# Altium integrated library LEDs-SMTW_rev15a.intlib: 6 symbols
Pins are listed as number, name and electrical type; pins without a type are passive.

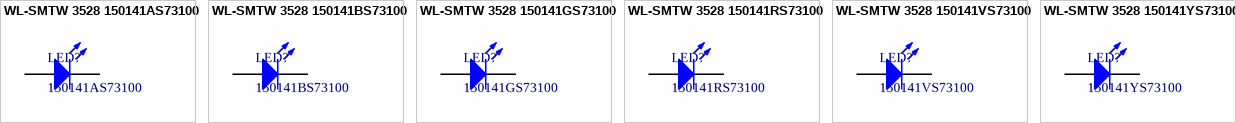
[diagram p0: symbols WL-SMTW 3528 150141AS73100 to WL-SMTW 3528 150141YS73100]

## WL-SMTW 3528 150141AS73100
designator LED?, comment 150141AS73100
SMD mono-color Top LED, WL-SMTW, Amber; Manufacturer: Würth Elektronik eiSos GmbH; PartNo: 150141AS73100; ComponentLink1Description: Manufacturer; ComponentLink1URL: http://www.we-online.de; Created by: Christin Otto; Created Date: June 2013; ComponentLink2Description: Datasheet; ComponentLink2URL: http://katalog.we-online.com/led/datasheet/150141AS73100.pdf; Color: Amber
footprint 3528 (Chip LED, 2-Leads, Body 3.5x2.8mm, IPC Medium Density)
pins: 1 C, 2 A

## WL-SMTW 3528 150141BS73100
designator LED?, comment 150141BS73100
SMD mono-color Top LED, WL-SMTW, Blue; Manufacturer: Würth Elektronik eiSos GmbH; PartNo: 150141BS73100; ComponentLink1Description: Manufacturer; ComponentLink1URL: http://www.we-online.de; Created by: Christin Otto; Created Date: June 2013; ComponentLink2Description: Datasheet; ComponentLink2URL: http://katalog.we-online.com/led/datasheet/150141BS73100.pdf; Color: Blue
footprint 3528 (Chip LED, 2-Leads, Body 3.5x2.8mm, IPC Medium Density)
pins: 1 C, 2 A

## WL-SMTW 3528 150141GS73100
designator LED?, comment 150141GS73100
SMD mono-color Top LED, WL-SMTW, Green; Manufacturer: Würth Elektronik eiSos GmbH; PartNo: 150141GS73100; ComponentLink1Description: Manufacturer; ComponentLink1URL: http://www.we-online.de; Created by: Christin Otto; Created Date: June 2013; ComponentLink2Description: Datasheet; ComponentLink2URL: http://katalog.we-online.com/led/datasheet/150141GS73100.pdf; Color: Green
footprint 3528 (Chip LED, 2-Leads, Body 3.5x2.8mm, IPC Medium Density)
pins: 1 C, 2 A

## WL-SMTW 3528 150141RS73100
designator LED?, comment 150141RS73100
SMD mono-color Top LED, WL-SMTW, Red; Manufacturer: Würth Elektronik eiSos GmbH; PartNo: 150141RS73100; ComponentLink1Description: Manufacturer; ComponentLink1URL: http://www.we-online.de; Created by: Christin Otto; Created Date: June 2013; ComponentLink2Description: Datasheet; ComponentLink2URL: http://katalog.we-online.com/led/datasheet/150141RS73100.pdf; Color: Red
footprint 3528 (Chip LED, 2-Leads, Body 3.5x2.8mm, IPC Medium Density)
pins: 1 C, 2 A

## WL-SMTW 3528 150141VS73100
designator LED?, comment 150141VS73100
SMD mono-color Top LED, WL-SMTW, Bright Green; Manufacturer: Würth Elektronik eiSos GmbH; PartNo: 150141VS73100; ComponentLink1Description: Manufacturer; ComponentLink1URL: http://www.we-online.de; Created by: Christin Otto; Created Date: June 2013; ComponentLink2Description: Datasheet; ComponentLink2URL: http://katalog.we-online.com/led/datasheet/150141VS73100.pdf; Color: Bright Green
footprint 3528 (Chip LED, 2-Leads, Body 3.5x2.8mm, IPC Medium Density)
pins: 1 C, 2 A

## WL-SMTW 3528 150141YS73100
designator LED?, comment 150141YS73100
SMD mono-color Top LED, WL-SMTW, Yellow; Manufacturer: Würth Elektronik eiSos GmbH; PartNo: 150141YS73100; ComponentLink1Description: Manufacturer; ComponentLink1URL: http://www.we-online.de; Created by: Christin Otto; Created Date: June 2013; ComponentLink2Description: Datasheet; ComponentLink2URL: http://katalog.we-online.com/led/datasheet/150141YS73100.pdf; Color: Yellow
footprint 3528 (Chip LED, 2-Leads, Body 3.5x2.8mm, IPC Medium Density)
pins: 1 C, 2 A